# Altium schematic symbol library SCH - PASSIVES - THERMISTOR NTC.SCHLIB: 1 symbol
Pins are listed as number, name and electrical type; pins without a type are passive.

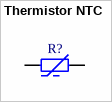
[diagram p0: symbol Thermistor NTC]

## Thermistor NTC
designator R?
SMT Resistor
pins: 1, 2